# EAGLE library part RFID-RC522 (library dl9sec_public)
AZ-Dekivery RFID-RC522 https://www.az-delivery.de/products/rfid-set
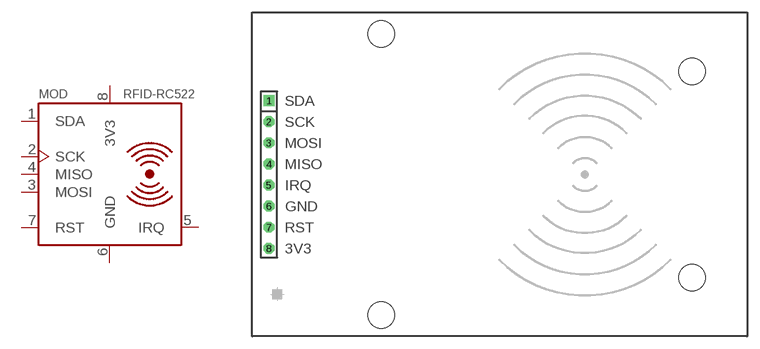
[diagram p5: symbol with the pads of RFID-RC522; footprint RFID-RC522]

Designator prefix MOD

## RFID-RC522  [RFID-RC522]
1  SDA  pas
2  SCK  pas
3  MOSI  pas
4  MISO  pas
5  IRQ  pas
6  GND  pwr
7  RST  pas
8  3V3  pwr

## Footprint RFID-RC522 (pad centres in mm)
AZ-Delivery RFID-RC522
drill 0.8 pad 1.27 square: 1 0,8.89
drill 0.8 pad 1.27 octagon: 2 0,6.35; 3 0,3.81; 4 0,1.27; 5 0,-1.27; 6 0,-3.81; 7 0,-6.35; 8 0,-8.89
hole 3.2 at 50.9,12.4
hole 3.2 at 50.9,-12.4
hole 3.2 at 13.5,-16.9
hole 3.2 at 13.5,16.9